# Altium integrated library Holtek Semiconductor 8-Bit OTP MCU.IntLib: 195 symbols (part 4 of 7)
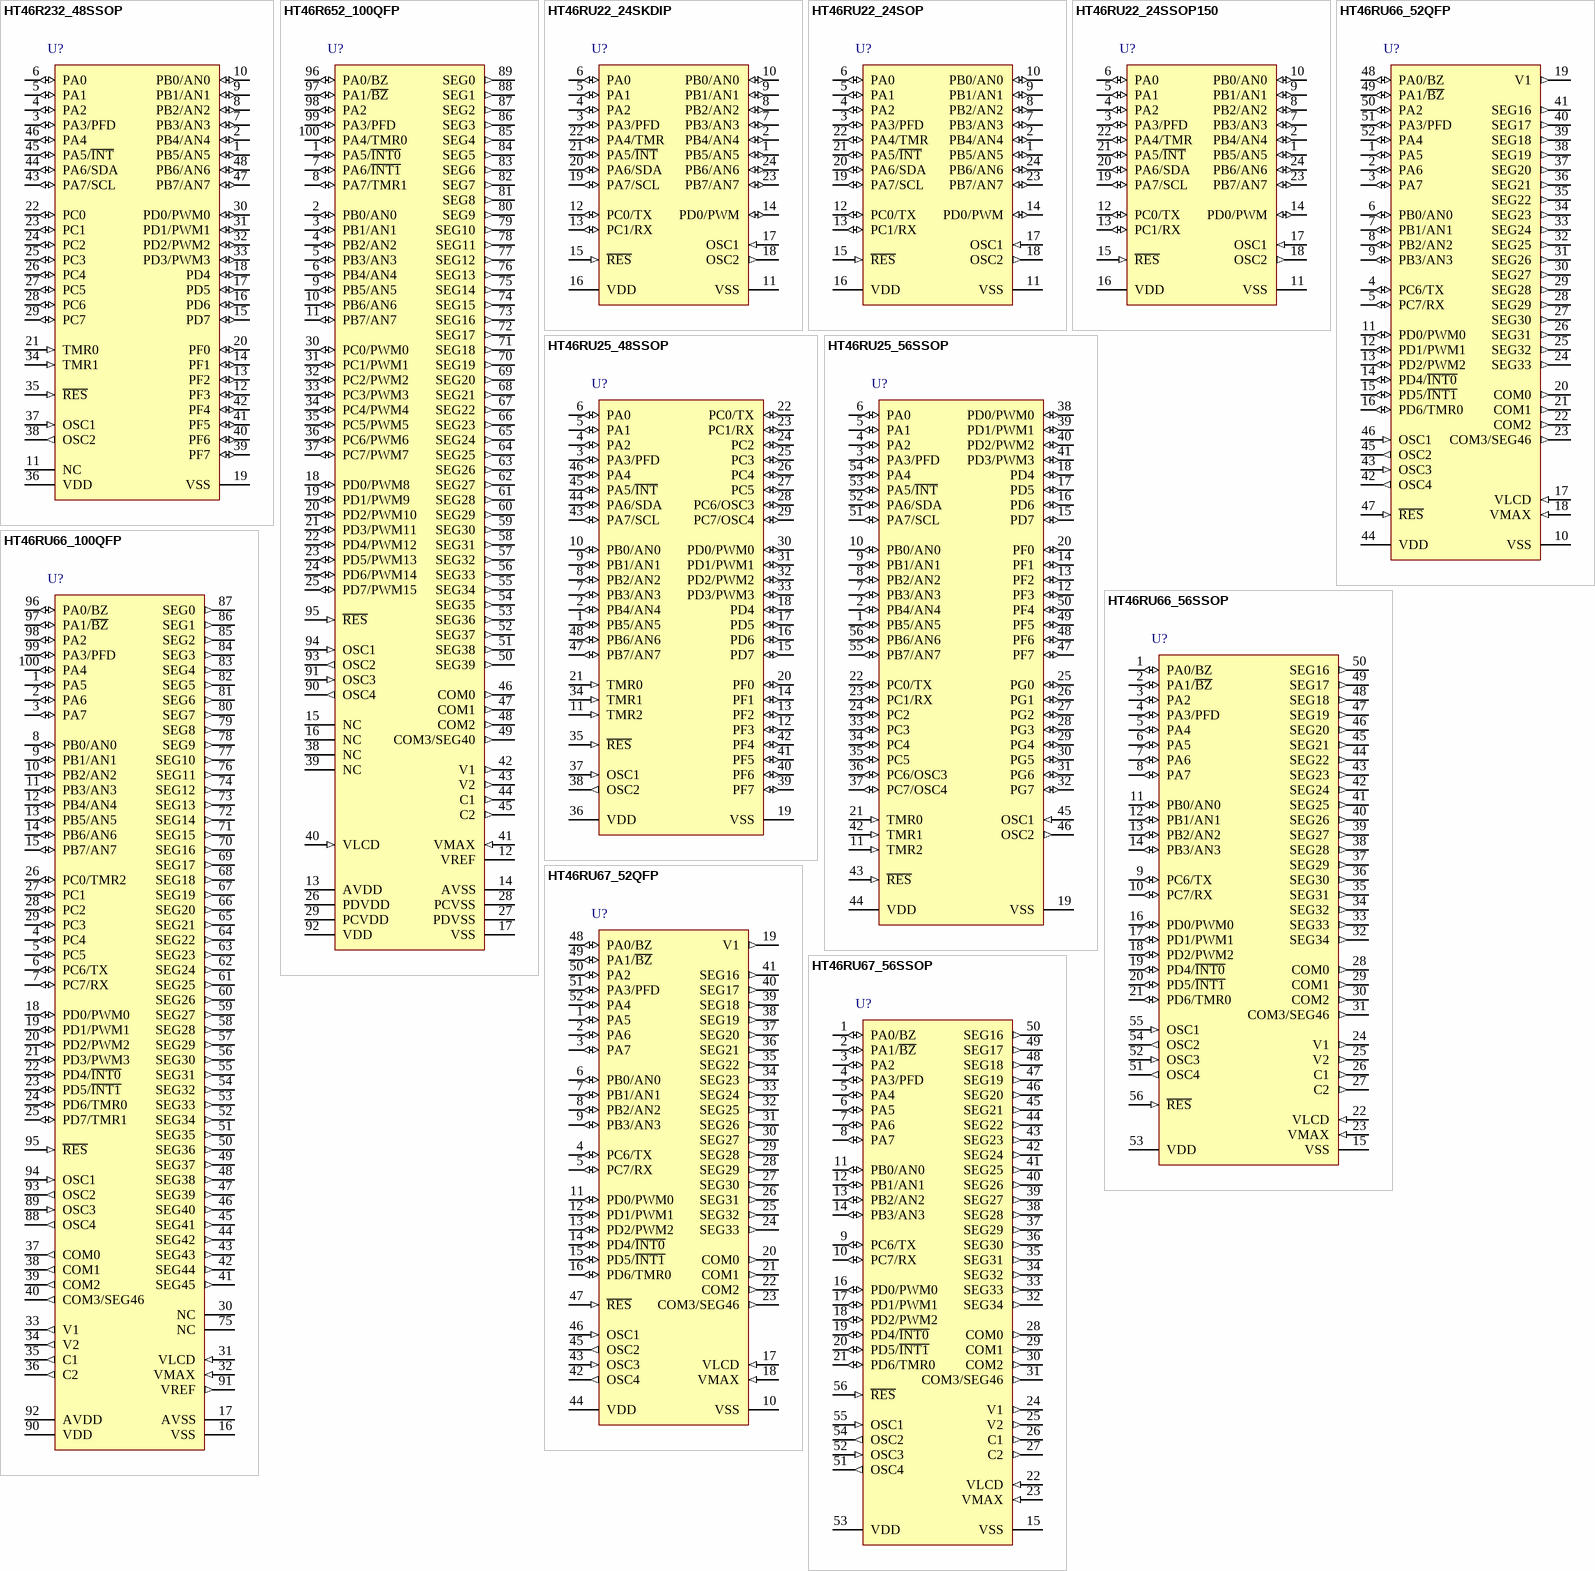
[diagram p15: symbols HT46R232_48SSOP to HT46RU67_56SSOP]

## HT46RU67_52QFP
designator U?
Display MCU, A/D Type MCU with LCD, 2.2V-5.5V, 400kHz-8MHz or 32768Hz, 32Kx16 Program Memory, 768x8 Data Memory, 32 I/O, 1 x 8-bit Timer, 2 x 16-bit Timer, 12-bitx8 A/D, 8-bitx4 PWM, 52-pin QFP; I/O: 32; DatasheetVersion: rev1.1, May-2010; PackageVersion: 25/05/2010; PackageReference: 52QFP; PackageDescription: 52-Pin Quad Flat Pack, 14 x 14 mm Body, 1 mm Pitch; Series: A/D Type MCU with LCD; Operating Voltage: 2.2V-5.5V; Program Memory: 32Kx16; Data Memory: 768x8; ComponentLink1Description: Manufacturer URL; ComponentLink1URL: http://www.holtek.com/; ComponentLink2Description: Datasheet; ComponentLink2URL: http://www.holtek.com.cn/pdf/uc/sim46xu67v110.pdf; ComponentLink3Description: Package Specification; ComponentLink3URL: http://www.holtek.com/english/literature/package.pdf
footprint 52QFP_N (QFP, 52-Leads, Body 14x14mm, Pitch 1mm, IPC Medium Density)
footprint 52QFP_L (QFP, 52-Leads, Body 14x14mm, Pitch 1mm, IPC High Density)
footprint 52QFP_M (QFP, 52-Leads, Body 14x14mm, Pitch 1mm, IPC Low Density)
pins: 1 PA5 (io), 2 PA6 (io), 3 PA7 (io), 4 PC6/TX (io), 5 PC7/RX (io), 6 PB0/AN0 (io), 7 PB1/AN1 (io), 8 PB2/AN2 (io), 9 PB3/AN3 (io), 10 VSS (power), 11 PD0/PWM0 (io), 12 PD1/PWM1 (io), 13 PD2/PWM2 (io), 14 PD4/~{INT0} (io), 15 PD5/~{INT1} (io), 16 PD6/TMR0 (io), 17 VLCD (in), 18 VMAX (in), 19 V1 (out), 20 COM0 (out), 21 COM1 (out), 22 COM2 (out), 23 COM3/SEG46 (out), 24 SEG33 (out), 25 SEG32 (out), 26 SEG31 (out), 27 SEG30 (out), 28 SEG29 (out), 29 SEG28 (out), 30 SEG27 (out), 31 SEG26 (out), 32 SEG25 (out), 33 SEG24 (out), 34 SEG23 (out), 35 SEG22 (out), 36 SEG21 (out), 37 SEG20 (out), 38 SEG19 (out), 39 SEG18 (out), 40 SEG17 (out), 41 SEG16 (out), 42 OSC4 (out), 43 OSC3 (in), 44 VDD (power), 45 OSC2 (out), 46 OSC1 (in), 47 ~{RES} (in), 48 PA0/BZ (io), 49 PA1/~{BZ} (io), 50 PA2 (io), 51 PA3/PFD (io), 52 PA4 (io)

## HT46RU67_56SSOP
designator U?
Display MCU, A/D Type MCU with LCD, 2.2V-5.5V, 400kHz-8MHz or 32768Hz, 32Kx16 Program Memory, 768x8 Data Memory, 32 I/O, 1 x 8-bit Timer, 2 x 16-bit Timer, 12-bitx8 A/D, 8-bitx4 PWM, 56-pin SSOP; I/O: 32; DatasheetVersion: rev1.1, May-2010; PackageVersion: 25/05/2010; PackageReference: 56SSOP; PackageDescription: 56-Pin Shrink Small Outline Package, 300mil Width, 0.64 mm Pitch; Series: A/D Type MCU with LCD; Operating Voltage: 2.2V-5.5V; Program Memory: 32Kx16; Data Memory: 768x8; Code_IPC: SOP635P1035-56; ComponentLink1Description: Manufacturer URL; ComponentLink1URL: http://www.holtek.com/; ComponentLink2Description: Datasheet; ComponentLink2URL: http://www.holtek.com.cn/pdf/uc/sim46xu67v110.pdf; ComponentLink3Description: Package Specification; ComponentLink3URL: http://www.holtek.com/english/literature/package.pdf
footprint 56SSOP_N (SOP, 56-Leads, Body 18.4x7.5mm, Pitch 0.635mm, IPC Medium Density)
footprint 56SSOP_L (SOP, 56-Leads, Body 18.4x7.5mm, Pitch 0.635mm, IPC High Density)
footprint 56SSOP_M (SOP, 56-Leads, Body 18.4x7.5mm, Pitch 0.635mm, IPC Low Density)
pins: 1 PA0/BZ (io), 2 PA1/~{BZ} (io), 3 PA2 (io), 4 PA3/PFD (io), 5 PA4 (io), 6 PA5 (io), 7 PA6 (io), 8 PA7 (io), 9 PC6/TX (io), 10 PC7/RX (io), 11 PB0/AN0 (io), 12 PB1/AN1 (io), 13 PB2/AN2 (io), 14 PB3/AN3 (io), 15 VSS (power), 16 PD0/PWM0 (io), 17 PD1/PWM1 (io), 18 PD2/PWM2 (io), 19 PD4/~{INT0} (io), 20 PD5/~{INT1} (io), 21 PD6/TMR0 (io), 22 VLCD (in), 23 VMAX (in), 24 V1 (out), 25 V2 (out), 26 C1 (out), 27 C2 (out), 28 COM0 (out), 29 COM1 (out), 30 COM2 (out), 31 COM3/SEG46 (out), 32 SEG34 (out), 33 SEG33 (out), 34 SEG32 (out), 35 SEG31 (out), 36 SEG30 (out), 37 SEG29 (out), 38 SEG28 (out), 39 SEG27 (out), 40 SEG26 (out), 41 SEG25 (out), 42 SEG24 (out), 43 SEG23 (out), 44 SEG22 (out), 45 SEG21 (out), 46 SEG20 (out), 47 SEG19 (out), 48 SEG18 (out), 49 SEG17 (out), 50 SEG16 (out), 51 OSC4 (out), 52 OSC3 (in), 53 VDD (power), 54 OSC2 (out), 55 OSC1 (in), 56 ~{RES} (in)

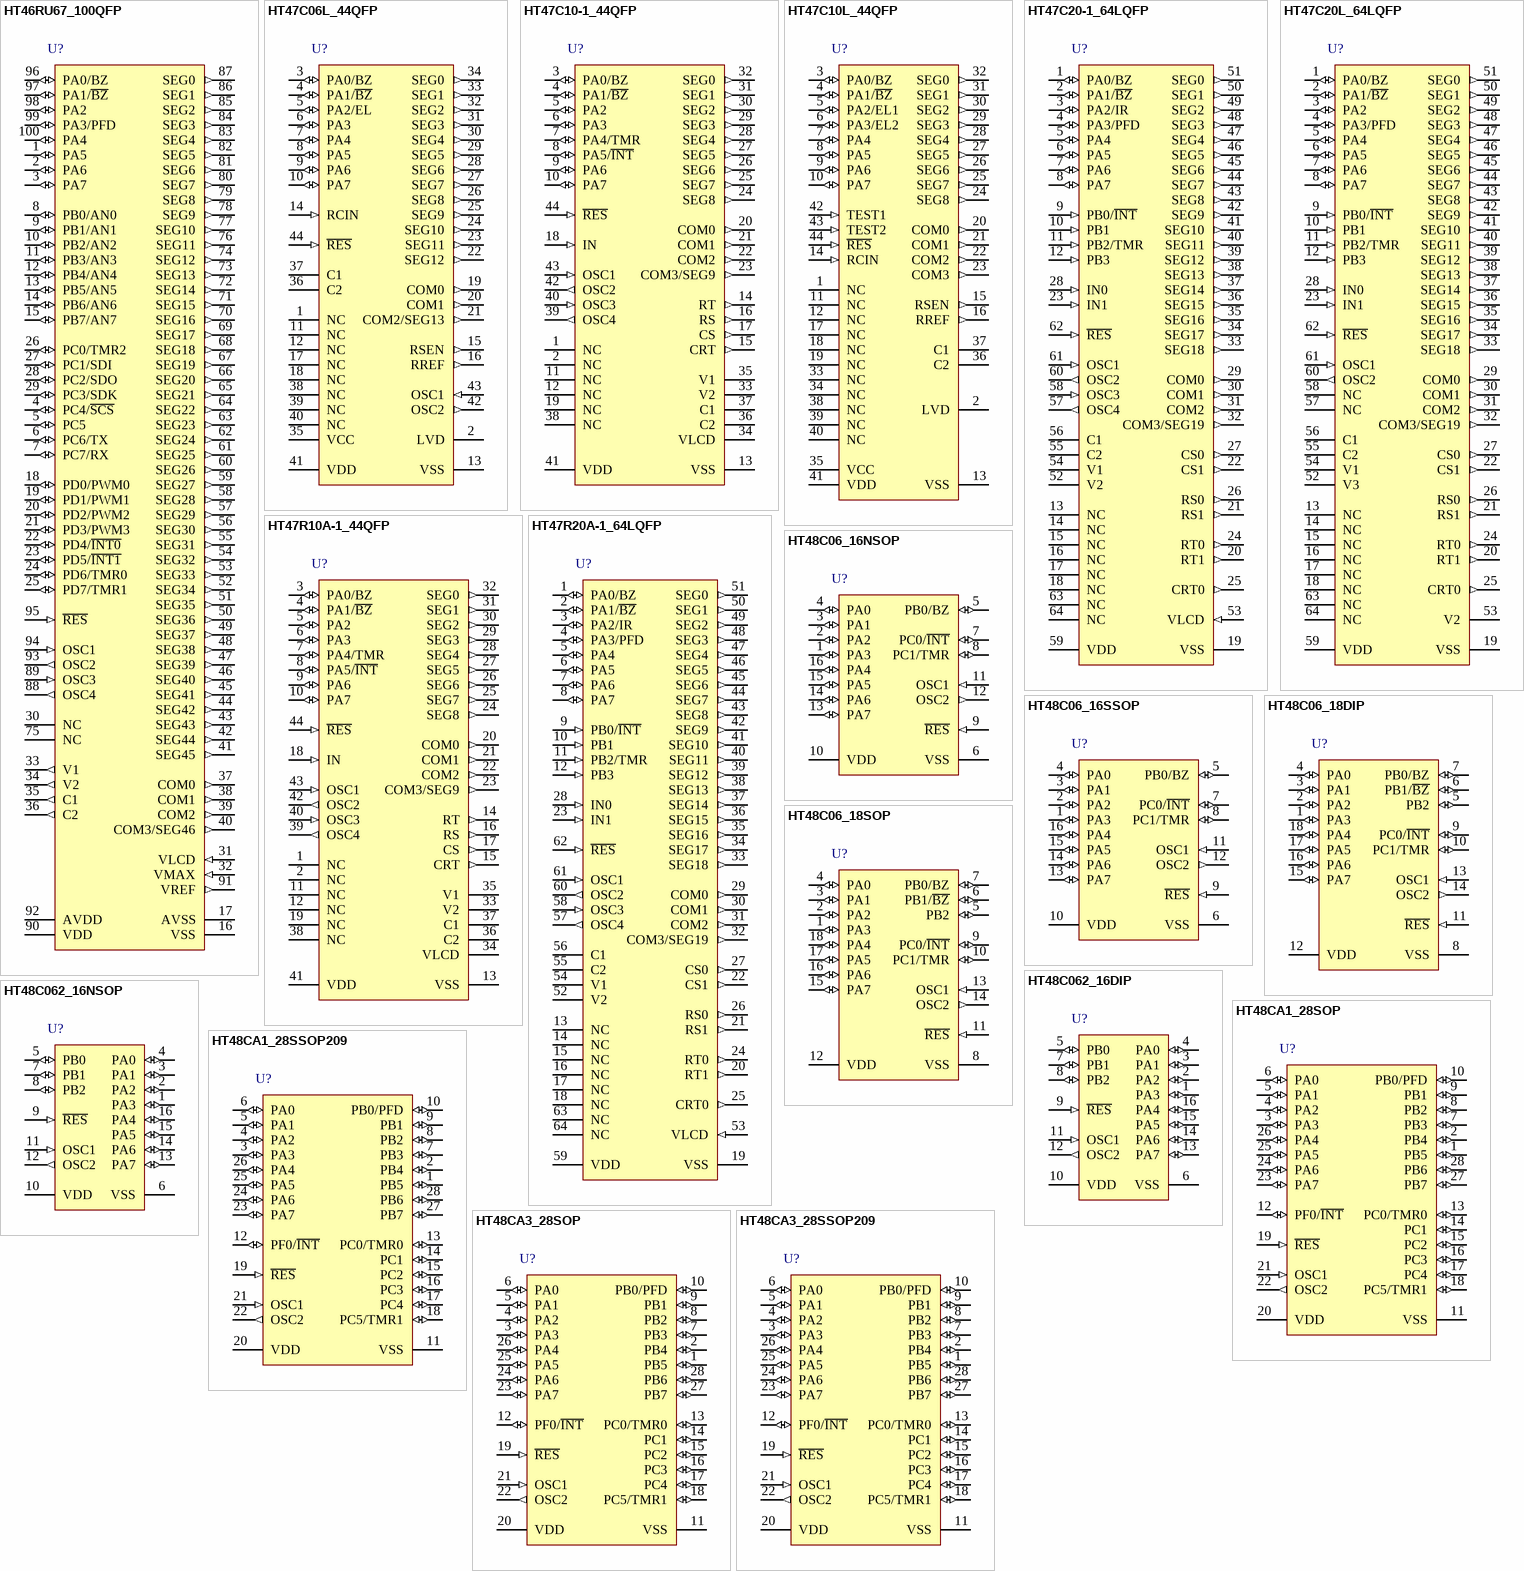
[diagram p7: symbols HT46RU67_100QFP to HT48CA3_28SSOP209]

## HT46RU67_100QFP
designator U?
Display MCU, A/D Type MCU with LCD, 2.2V-5.5V, 400kHz-8MHz or 32768Hz, 32Kx16 Program Memory, 768x8 Data Memory, 32 I/O, 1 x 8-bit Timer, 2 x 16-bit Timer, 12-bitx8 A/D, 8-bitx4 PWM, 100-pin QFP; I/O: 32; DatasheetVersion: rev1.1, May-2010; PackageVersion: 25/05/2010; PackageReference: 100QFP; PackageDescription: 100-Pin Quad Flat Pack, 14 x 20 mm Body, 0.65 mm Pitch; Series: A/D Type MCU with LCD; Operating Voltage: 2.2V-5.5V; Program Memory: 32Kx16; Data Memory: 768x8; ComponentLink1Description: Manufacturer URL; ComponentLink1URL: http://www.holtek.com/; ComponentLink2Description: Datasheet; ComponentLink2URL: http://www.holtek.com.cn/pdf/uc/sim46xu67v110.pdf; ComponentLink3Description: Package Specification; ComponentLink3URL: http://www.holtek.com/english/literature/package.pdf
footprint 100QFP_N (QFP, 100-Leads, Body 20x14mm, Pitch 0.65mm, IPC Medium Density)
footprint 100QFP_L (QFP, 100-Leads, Body 20x14mm, Pitch 0.65mm, IPC High Density)
footprint 100QFP_M (QFP, 100-Leads, Body 20x14mm, Pitch 0.65mm, IPC Low Density)
pins: 1 PA5 (io), 2 PA6 (io), 3 PA7 (io), 4 PC4/~{SCS} (io), 5 PC5 (io), 6 PC6/TX (io), 7 PC7/RX (io), 8 PB0/AN0 (io), 9 PB1/AN1 (io), 10 PB2/AN2 (io), 11 PB3/AN3 (io), 12 PB4/AN4 (io), 13 PB5/AN5 (io), 14 PB6/AN6 (io), 15 PB7/AN7 (io), 16 VSS (power), 17 AVSS (power), 18 PD0/PWM0 (io), 19 PD1/PWM1 (io), 20 PD2/PWM2 (io), 21 PD3/PWM3 (io), 22 PD4/~{INT0} (io), 23 PD5/~{INT1} (io), 24 PD6/TMR0 (io), 25 PD7/TMR1 (io), 26 PC0/TMR2 (io), 27 PC1/SDI (io), 28 PC2/SDO (io), 29 PC3/SDK (io), 30 NC, 31 VLCD (in), 32 VMAX (in), 33 V1 (out), 34 V2 (out), 35 C1 (out), 36 C2 (out), 37 COM0 (out), 38 COM1 (out), 39 COM2 (out), 40 COM3/SEG46 (out), 41 SEG45 (out), 42 SEG44 (out), 43 SEG43 (out), 44 SEG42 (out), 45 SEG41 (out), 46 SEG40 (out), 47 SEG39 (out), 48 SEG38 (out), 49 SEG37 (out), 50 SEG36 (out), 51 SEG35 (out), 52 SEG34 (out), 53 SEG33 (out), 54 SEG32 (out), 55 SEG31 (out), 56 SEG30 (out), 57 SEG29 (out), 58 SEG28 (out), 59 SEG27 (out), 60 SEG26 (out), 61 SEG25 (out), 62 SEG24 (out), 63 SEG23 (out), 64 SEG22 (out), 65 SEG21 (out), 66 SEG20 (out), 67 SEG19 (out), 68 SEG18 (out), 69 SEG17 (out), 70 SEG16 (out), 71 SEG15 (out), 72 SEG14 (out), 73 SEG13 (out), 74 SEG12 (out), 75 NC, 76 SEG11 (out), 77 SEG10 (out), 78 SEG9 (out), 79 SEG8 (out), 80 SEG7 (out), 81 SEG6 (out), 82 SEG5 (out), 83 SEG4 (out), 84 SEG3 (out), 85 SEG2 (out), 86 SEG1 (out), 87 SEG0 (out), 88 OSC4 (out), 89 OSC3 (in), 90 VDD (power), 91 VREF (out), 92 AVDD (power), 93 OSC2 (out), 94 OSC1 (in), 95 ~{RES} (in), 96 PA0/BZ (io), 97 PA1/~{BZ} (io), 98 PA2 (io), 99 PA3/PFD (io), 100 PA4 (io)

## HT47C06L_44QFP
designator U?
R to F Type MCU, R to F Type MCU, 1.2V-2.2V, 32768Hz-128kHz, 1Kx16 Program Memory, 32x8 Data Memory, 8 I/O, 1 x 16-bit Timer, 44-pin QFP; I/O: 8; DatasheetVersion: rev1.0, Jun-2007; PackageVersion: 25/05/2010; PackageReference: 44QFP; PackageDescription: 44-Pin Quad Flat Pack, 10 x 10 mm Body, 0.8 mm Pitch; Series: R to F Type MCU; Operating Voltage: 1.2V-2.2V; Program Memory: 1Kx16; Data Memory: 32x8; Code_IPC: QFP80P1320X1320-44; ComponentLink1Description: Manufacturer URL; ComponentLink1URL: http://www.holtek.com/; ComponentLink2Description: Datasheet; ComponentLink2URL: http://www.holtek.com.cn/pdf/uc/sim47c06lv100.pdf; ComponentLink3Description: Package Specification; ComponentLink3URL: http://www.holtek.com/english/literature/package.pdf
footprint 44QFP_N (QFP, 44-Leads, Body 10x10mm, Pitch 0.8mm, IPC Medium Density)
footprint 44QFP_L (QFP, 44-Leads, Body 10x10mm, Pitch 0.8mm, IPC High Density)
footprint 44QFP_M (QFP, 44-Leads, Body 10x10mm, Pitch 0.8mm, IPC Low Density)
pins: 1 NC, 2 LVD, 3 PA0/BZ (io), 4 PA1/~{BZ} (io), 5 PA2/EL (io), 6 PA3 (io), 7 PA4 (io), 8 PA5 (io), 9 PA6 (io), 10 PA7 (io), 11 NC, 12 NC, 13 VSS (power), 14 RCIN (in), 15 RSEN (out), 16 RREF (out), 17 NC, 18 NC, 19 COM0 (out), 20 COM1 (out), 21 COM2/SEG13 (out), 22 SEG12 (out), 23 SEG11 (out), 24 SEG10 (out), 25 SEG9 (out), 26 SEG8 (out), 27 SEG7 (out), 28 SEG6 (out), 29 SEG5 (out), 30 SEG4 (out), 31 SEG3 (out), 32 SEG2 (out), 33 SEG1 (out), 34 SEG0 (out), 35 VCC (power), 36 C2, 37 C1, 38 NC, 39 NC, 40 NC, 41 VDD (power), 42 OSC2 (out), 43 OSC1 (in), 44 ~{RES} (in)

## HT47C10-1_44QFP
designator U?
R to F Type MCU, R to F Type MCU, 2.2V-5.5V, 400kHz-8MHz, 1Kx16 Program Memory, 32x8 Data Memory, 8 I/O, 1 x 16-bit Timer, 44-pin QFP; I/O: 8; DatasheetVersion: rev1.1, Sep-2007; PackageVersion: 25/05/2010; PackageReference: 44QFP; PackageDescription: 44-Pin Quad Flat Pack, 10 x 10 mm Body, 0.8 mm Pitch; Series: R to F Type MCU; Operating Voltage: 2.2V-5.5V; Program Memory: 1Kx16; Data Memory: 32x8; Code_IPC: QFP80P1320X1320-44; ComponentLink1Description: Manufacturer URL; ComponentLink1URL: http://www.holtek.com/; ComponentLink2Description: Datasheet; ComponentLink2URL: http://www.holtek.com.cn/pdf/uc/sim47x10v110.pdf; ComponentLink3Description: Package Specification; ComponentLink3URL: http://www.holtek.com/english/literature/package.pdf
footprint 44QFP_N (QFP, 44-Leads, Body 10x10mm, Pitch 0.8mm, IPC Medium Density)
footprint 44QFP_L (QFP, 44-Leads, Body 10x10mm, Pitch 0.8mm, IPC High Density)
footprint 44QFP_M (QFP, 44-Leads, Body 10x10mm, Pitch 0.8mm, IPC Low Density)
pins: 1 NC, 2 NC, 3 PA0/BZ (io), 4 PA1/~{BZ} (io), 5 PA2 (io), 6 PA3 (io), 7 PA4/TMR (io), 8 PA5/~{INT} (io), 9 PA6 (io), 10 PA7 (io), 11 NC, 12 NC, 13 VSS (power), 14 RT (out), 15 CRT (out), 16 RS (out), 17 CS (out), 18 IN (in), 19 NC, 20 COM0 (out), 21 COM1 (out), 22 COM2 (out), 23 COM3/SEG9 (out), 24 SEG8 (out), 25 SEG7 (out), 26 SEG6 (out), 27 SEG5 (out), 28 SEG4 (out), 29 SEG3 (out), 30 SEG2 (out), 31 SEG1 (out), 32 SEG0 (out), 33 V2, 34 VLCD, 35 V1, 36 C2, 37 C1, 38 NC, 39 OSC4 (out), 40 OSC3 (in), 41 VDD (power), 42 OSC2 (out), 43 OSC1 (in), 44 ~{RES} (in)

## HT47C10L_44QFP
designator U?
R to F Type MCU, R to F Type MCU, 1.2V-2.2V, 32768Hz, 1Kx16 Program Memory, 32x8 Data Memory, 8 I/O, 1 x 16-bit Timer, 44-pin QFP; I/O: 8; DatasheetVersion: rev1.9, Nov-2005; PackageVersion: 25/05/2010; PackageReference: 44QFP; PackageDescription: 44-Pin Quad Flat Pack, 10 x 10 mm Body, 0.8 mm Pitch; Series: R to F Type MCU; Operating Voltage: 1.2V-2.2V; Program Memory: 1Kx16; Data Memory: 32x8; Code_IPC: QFP80P1320X1320-44; ComponentLink1Description: Manufacturer URL; ComponentLink1URL: http://www.holtek.com/; ComponentLink2Description: Datasheet; ComponentLink2URL: http://www.holtek.com.cn/pdf/uc/sim47c10lv190.pdf; ComponentLink3Description: Package Specification; ComponentLink3URL: http://www.holtek.com/english/literature/package.pdf
footprint 44QFP_N (QFP, 44-Leads, Body 10x10mm, Pitch 0.8mm, IPC Medium Density)
footprint 44QFP_L (QFP, 44-Leads, Body 10x10mm, Pitch 0.8mm, IPC High Density)
footprint 44QFP_M (QFP, 44-Leads, Body 10x10mm, Pitch 0.8mm, IPC Low Density)
pins: 1 NC, 2 LVD, 3 PA0/BZ (io), 4 PA1/~{BZ} (io), 5 PA2/EL1 (io), 6 PA3/EL2 (io), 7 PA4 (io), 8 PA5 (io), 9 PA6 (io), 10 PA7 (io), 11 NC, 12 NC, 13 VSS (power), 14 RCIN (in), 15 RSEN (out), 16 RREF (out), 17 NC, 18 NC, 19 NC, 20 COM0 (out), 21 COM1 (out), 22 COM2 (out), 23 COM3 (out), 24 SEG8 (out), 25 SEG7 (out), 26 SEG6 (out), 27 SEG5 (out), 28 SEG4 (out), 29 SEG3 (out), 30 SEG2 (out), 31 SEG1 (out), 32 SEG0 (out), 33 NC, 34 NC, 35 VCC (power), 36 C2, 37 C1, 38 NC, 39 NC, 40 NC, 41 VDD (power), 42 TEST1 (in), 43 TEST2 (in), 44 ~{RES} (in)

## HT47C20-1_64LQFP
designator U?
R to F Type MCU, R to F Type MCU, 2.2V-5.5V, 400kHz-8MHz, 2Kx16 Program Memory, 64x8 Data Memory, 12 I/O, 1 x 16-bit Timer, 64-pin LQFP; I/O: 12; DatasheetVersion: rev1.8, Jun-2008; PackageVersion: 25/05/2010; PackageReference: 64LQFP; PackageDescription: 64-Pin Low Profile Quad Flat Pack, 7 x 7 mm Body, 0.4 mm Pitch; Series: R to F Type MCU; Operating Voltage: 2.2V-5.5V; Program Memory: 2Kx16; Data Memory: 64x8; ComponentLink1Description: Manufacturer URL; ComponentLink1URL: http://www.holtek.com/; ComponentLink2Description: Datasheet; ComponentLink2URL: http://www.holtek.com.cn/pdf/uc/sim47x20v180.pdf; ComponentLink3Description: Package Specification; ComponentLink3URL: http://www.holtek.com/english/literature/package.pdf
footprint 64LQFP_N (Thin QFP, 64-Leads, Body 7x7mm, Pitch 0.4mm, IPC Medium Density)
footprint 64LQFP_L (Thin QFP, 64-Leads, Body 7x7mm, Pitch 0.4mm, IPC High Density)
footprint 64LQFP_M (Thin QFP, 64-Leads, Body 7x7mm, Pitch 0.4mm, IPC Low Density)
pins: 1 PA0/BZ (io), 2 PA1/~{BZ} (io), 3 PA2/IR (io), 4 PA3/PFD (io), 5 PA4 (io), 6 PA5 (io), 7 PA6 (io), 8 PA7 (io), 9 PB0/~{INT} (in), 10 PB1 (in), 11 PB2/TMR (in), 12 PB3 (in), 13 NC, 14 NC, 15 NC, 16 NC, 17 NC, 18 NC, 19 VSS (power), 20 RT1 (out), 21 RS1 (out), 22 CS1 (out), 23 IN1 (in), 24 RT0 (out), 25 CRT0 (out), 26 RS0 (out), 27 CS0 (out), 28 IN0 (in), 29 COM0 (out), 30 COM1 (out), 31 COM2 (out), 32 COM3/SEG19 (out), 33 SEG18 (out), 34 SEG17 (out), 35 SEG16 (out), 36 SEG15 (out), 37 SEG14 (out), 38 SEG13 (out), 39 SEG12 (out), 40 SEG11 (out), 41 SEG10 (out), 42 SEG9 (out), 43 SEG8 (out), 44 SEG7 (out), 45 SEG6 (out), 46 SEG5 (out), 47 SEG4 (out), 48 SEG3 (out), 49 SEG2 (out), 50 SEG1 (out), 51 SEG0 (out), 52 V2, 53 VLCD (in), 54 V1, 55 C2, 56 C1, 57 OSC4 (out), 58 OSC3 (in), 59 VDD (power), 60 OSC2 (out), 61 OSC1 (in), 62 ~{RES} (in), 63 NC, 64 NC

## HT47C20L_64LQFP
designator U?
R to F Type MCU, R to F Type MCU, 1.2V-2.2V, 32768Hz, 2Kx16 Program Memory, 64x8 Data Memory, 12 I/O, 1 x 16-bit Timer, 64-pin LQFP; I/O: 12; DatasheetVersion: rev2.5, Jun-2008; PackageVersion: 25/05/2010; PackageReference: 64LQFP; PackageDescription: 64-Pin Low Profile Quad Flat Pack, 7 x 7 mm Body, 0.4 mm Pitch; Series: R to F Type MCU; Operating Voltage: 1.2V-2.2V; Program Memory: 2Kx16; Data Memory: 64x8; ComponentLink1Description: Manufacturer URL; ComponentLink1URL: http://www.holtek.com/; ComponentLink2Description: Datasheet; ComponentLink2URL: http://www.holtek.com.cn/pdf/uc/sim47c20lv250.pdf; ComponentLink3Description: Package Specification; ComponentLink3URL: http://www.holtek.com/english/literature/package.pdf
footprint 64LQFP_N (Thin QFP, 64-Leads, Body 7x7mm, Pitch 0.4mm, IPC Medium Density)
footprint 64LQFP_L (Thin QFP, 64-Leads, Body 7x7mm, Pitch 0.4mm, IPC High Density)
footprint 64LQFP_M (Thin QFP, 64-Leads, Body 7x7mm, Pitch 0.4mm, IPC Low Density)
pins: 1 PA0/BZ (io), 2 PA1/~{BZ} (io), 3 PA2 (io), 4 PA3/PFD (io), 5 PA4 (io), 6 PA5 (io), 7 PA6 (io), 8 PA7 (io), 9 PB0/~{INT} (in), 10 PB1 (in), 11 PB2/TMR (in), 12 PB3 (in), 13 NC, 14 NC, 15 NC, 16 NC, 17 NC, 18 NC, 19 VSS (power), 20 RT1 (out), 21 RS1 (out), 22 CS1 (out), 23 IN1 (in), 24 RT0 (out), 25 CRT0 (out), 26 RS0 (out), 27 CS0 (out), 28 IN0 (in), 29 COM0 (out), 30 COM1 (out), 31 COM2 (out), 32 COM3/SEG19 (out), 33 SEG18 (out), 34 SEG17 (out), 35 SEG16 (out), 36 SEG15 (out), 37 SEG14 (out), 38 SEG13 (out), 39 SEG12 (out), 40 SEG11 (out), 41 SEG10 (out), 42 SEG9 (out), 43 SEG8 (out), 44 SEG7 (out), 45 SEG6 (out), 46 SEG5 (out), 47 SEG4 (out), 48 SEG3 (out), 49 SEG2 (out), 50 SEG1 (out), 51 SEG0 (out), 52 V3, 53 V2, 54 V1, 55 C2, 56 C1, 57 NC, 58 NC, 59 VDD (power), 60 OSC2 (out), 61 OSC1 (in), 62 ~{RES} (in), 63 NC, 64 NC

## HT47R10A-1_44QFP
designator U?
R to F Type MCU, R to F Type MCU, 2.2V-5.5V, 400kHz-8MHz, 1Kx16 Program Memory, 32x8 Data Memory, 8 I/O, 1 x 16-bit Timer, 44-pin QFP; I/O: 8; DatasheetVersion: rev1.1, Sep-2007; PackageVersion: 25/05/2010; PackageReference: 44QFP; PackageDescription: 44-Pin Quad Flat Pack, 10 x 10 mm Body, 0.8 mm Pitch; Series: R to F Type MCU; Operating Voltage: 2.2V-5.5V; Program Memory: 1Kx16; Data Memory: 32x8; Code_IPC: QFP80P1320X1320-44; ComponentLink1Description: Manufacturer URL; ComponentLink1URL: http://www.holtek.com/; ComponentLink2Description: Datasheet; ComponentLink2URL: http://www.holtek.com.cn/pdf/uc/sim47x10v110.pdf; ComponentLink3Description: Package Specification; ComponentLink3URL: http://www.holtek.com/english/literature/package.pdf
footprint 44QFP_N (QFP, 44-Leads, Body 10x10mm, Pitch 0.8mm, IPC Medium Density)
footprint 44QFP_L (QFP, 44-Leads, Body 10x10mm, Pitch 0.8mm, IPC High Density)
footprint 44QFP_M (QFP, 44-Leads, Body 10x10mm, Pitch 0.8mm, IPC Low Density)
pins: 1 NC, 2 NC, 3 PA0/BZ (io), 4 PA1/~{BZ} (io), 5 PA2 (io), 6 PA3 (io), 7 PA4/TMR (io), 8 PA5/~{INT} (io), 9 PA6 (io), 10 PA7 (io), 11 NC, 12 NC, 13 VSS (power), 14 RT (out), 15 CRT (out), 16 RS (out), 17 CS (out), 18 IN (in), 19 NC, 20 COM0 (out), 21 COM1 (out), 22 COM2 (out), 23 COM3/SEG9 (out), 24 SEG8 (out), 25 SEG7 (out), 26 SEG6 (out), 27 SEG5 (out), 28 SEG4 (out), 29 SEG3 (out), 30 SEG2 (out), 31 SEG1 (out), 32 SEG0 (out), 33 V2, 34 VLCD, 35 V1, 36 C2, 37 C1, 38 NC, 39 OSC4 (out), 40 OSC3 (in), 41 VDD (power), 42 OSC2 (out), 43 OSC1 (in), 44 ~{RES} (in)

## HT47R20A-1_64LQFP
designator U?
R to F Type MCU, R to F Type MCU, 2.2V-5.5V, 400kHz-8MHz, 2Kx16 Program Memory, 64x8 Data Memory, 12 I/O, 1 x 16-bit Timer, 64-pin LQFP; I/O: 12; DatasheetVersion: rev1.8, Jun-2008; PackageVersion: 25/05/2010; PackageReference: 64LQFP; PackageDescription: 64-Pin Low Profile Quad Flat Pack, 7 x 7 mm Body, 0.4 mm Pitch; Series: R to F Type MCU; Operating Voltage: 2.2V-5.5V; Program Memory: 2Kx16; Data Memory: 64x8; ComponentLink1Description: Manufacturer URL; ComponentLink1URL: http://www.holtek.com/; ComponentLink2Description: Datasheet; ComponentLink2URL: http://www.holtek.com.cn/pdf/uc/sim47x20v180.pdf; ComponentLink3Description: Package Specification; ComponentLink3URL: http://www.holtek.com/english/literature/package.pdf
footprint 64LQFP_N (Thin QFP, 64-Leads, Body 7x7mm, Pitch 0.4mm, IPC Medium Density)
footprint 64LQFP_L (Thin QFP, 64-Leads, Body 7x7mm, Pitch 0.4mm, IPC High Density)
footprint 64LQFP_M (Thin QFP, 64-Leads, Body 7x7mm, Pitch 0.4mm, IPC Low Density)
pins: 1 PA0/BZ (io), 2 PA1/~{BZ} (io), 3 PA2/IR (io), 4 PA3/PFD (io), 5 PA4 (io), 6 PA5 (io), 7 PA6 (io), 8 PA7 (io), 9 PB0/~{INT} (in), 10 PB1 (in), 11 PB2/TMR (in), 12 PB3 (in), 13 NC, 14 NC, 15 NC, 16 NC, 17 NC, 18 NC, 19 VSS (power), 20 RT1 (out), 21 RS1 (out), 22 CS1 (out), 23 IN1 (in), 24 RT0 (out), 25 CRT0 (out), 26 RS0 (out), 27 CS0 (out), 28 IN0 (in), 29 COM0 (out), 30 COM1 (out), 31 COM2 (out), 32 COM3/SEG19 (out), 33 SEG18 (out), 34 SEG17 (out), 35 SEG16 (out), 36 SEG15 (out), 37 SEG14 (out), 38 SEG13 (out), 39 SEG12 (out), 40 SEG11 (out), 41 SEG10 (out), 42 SEG9 (out), 43 SEG8 (out), 44 SEG7 (out), 45 SEG6 (out), 46 SEG5 (out), 47 SEG4 (out), 48 SEG3 (out), 49 SEG2 (out), 50 SEG1 (out), 51 SEG0 (out), 52 V2, 53 VLCD (in), 54 V1, 55 C2, 56 C1, 57 OSC4 (out), 58 OSC3 (in), 59 VDD (power), 60 OSC2 (out), 61 OSC1 (in), 62 ~{RES} (in), 63 NC, 64 NC

## HT48C06_16NSOP
designator U?
General Purpose MCU, Cost-Effective I/O Type MCU, 2.2V-5.5V, 400kHz-8MHz, 1Kx14 Program Memory, 64x8 Data Memory, 13 I/O, 1 x 8-bit Timer, 16-pin NSOP; I/O: 13; DatasheetVersion: rev1.51, Dec-2008; PackageVersion: 25/05/2010; PackageReference: 16NSOP; PackageDescription: 16-Pin Narrow Small Outline Package, 150mil Wide, 1.27 mm Pitch; Series: Cost-Effective I/O Type MCU; Operating Voltage: 2.2V-5.5V; Program Memory: 1Kx14; Data Memory: 64x8; ComponentLink1Description: Manufacturer URL; ComponentLink1URL: http://www.holtek.com/; ComponentLink2Description: Datasheet; ComponentLink2URL: http://www.holtek.com.cn/pdf/uc/sim48x050608_1v151.pdf; ComponentLink3Description: Package Specification; ComponentLink3URL: http://www.holtek.com/english/literature/package.pdf
footprint 16NSOP_N (SOIC, 16-Leads, Body 10.01x3.9mm, Pitch 1.27mm, IPC Medium Density)
footprint 16NSOP_L (SOIC, 16-Leads, Body 10.01x3.9mm, Pitch 1.27mm, IPC High Density)
footprint 16NSOP_M (SOIC, 16-Leads, Body 10.01x3.9mm, Pitch 1.27mm, IPC Low Density)
pins: 1 PA3 (io), 2 PA2 (io), 3 PA1 (io), 4 PA0 (io), 5 PB0/BZ (io), 6 VSS (power), 7 PC0/~{INT} (io), 8 PC1/TMR (io), 9 ~{RES} (in), 10 VDD (power), 11 OSC1 (in), 12 OSC2 (out), 13 PA7 (io), 14 PA6 (io), 15 PA5 (io), 16 PA4 (io)

## HT48C06_16SSOP
designator U?
General Purpose MCU, Cost-Effective I/O Type MCU, 2.2V-5.5V, 400kHz-8MHz, 1Kx14 Program Memory, 64x8 Data Memory, 13 I/O, 1 x 8-bit Timer, 16-pin SSOP; I/O: 13; DatasheetVersion: rev1.51, Dec-2008; PackageVersion: 25/05/2010; PackageReference: 16SSOP; PackageDescription: 16-Pin Shrink Small Outline Package, 150mil Width, 0.64 mm Pitch; Series: Cost-Effective I/O Type MCU; Operating Voltage: 2.2V-5.5V; Program Memory: 1Kx14; Data Memory: 64x8; ComponentLink1Description: Manufacturer URL; ComponentLink1URL: http://www.holtek.com/; ComponentLink2Description: Datasheet; ComponentLink2URL: http://www.holtek.com.cn/pdf/uc/sim48x050608_1v151.pdf; ComponentLink3Description: Package Specification; ComponentLink3URL: http://www.holtek.com/english/literature/package.pdf
footprint 16SSOP_N (SOP, 16-Leads, Body 4.9x3.9mm, Pitch 0.635mm, IPC Medium Density)
footprint 16SSOP_L (SOP, 16-Leads, Body 4.9x3.9mm, Pitch 0.635mm, IPC High Density)
footprint 16SSOP_M (SOP, 16-Leads, Body 4.9x3.9mm, Pitch 0.635mm, IPC Low Density)
pins: 1 PA3 (io), 2 PA2 (io), 3 PA1 (io), 4 PA0 (io), 5 PB0/BZ (io), 6 VSS (power), 7 PC0/~{INT} (io), 8 PC1/TMR (io), 9 ~{RES} (in), 10 VDD (power), 11 OSC1 (in), 12 OSC2 (out), 13 PA7 (io), 14 PA6 (io), 15 PA5 (io), 16 PA4 (io)

## HT48C06_18DIP
designator U?
General Purpose MCU, Cost-Effective I/O Type MCU, 2.2V-5.5V, 400kHz-8MHz, 1Kx14 Program Memory, 64x8 Data Memory, 13 I/O, 1 x 8-bit Timer, 18-pin DIP; I/O: 13; DatasheetVersion: rev1.51, Dec-2008; PackageVersion: 25/05/2010; PackageReference: 18DIP; PackageDescription: 18-Pin, Dual In-line Package, 300mil Width, Pitch 2.54 mm, Full Lead; Series: Cost-Effective I/O Type MCU; Operating Voltage: 2.2V-5.5V; Program Memory: 1Kx14; Data Memory: 64x8; Code_JEDEC: MS-001D; ComponentLink1Description: Manufacturer URL; ComponentLink1URL: http://www.holtek.com/; ComponentLink2Description: Datasheet; ComponentLink2URL: http://www.holtek.com.cn/pdf/uc/sim48x050608_1v151.pdf; ComponentLink3Description: Package Specification; ComponentLink3URL: http://www.holtek.com/english/literature/package.pdf
footprint 18DIP (DIP, 18-Leads, Row Spacing 7.62mm, Pitch 2.54mm, Body 22.9x6.6mm)
pins: 1 PA3 (io), 2 PA2 (io), 3 PA1 (io), 4 PA0 (io), 5 PB2 (io), 6 PB1/~{BZ} (io), 7 PB0/BZ (io), 8 VSS (power), 9 PC0/~{INT} (io), 10 PC1/TMR (io), 11 ~{RES} (in), 12 VDD (power), 13 OSC1 (in), 14 OSC2 (out), 15 PA7 (io), 16 PA6 (io), 17 PA5 (io), 18 PA4 (io)

## HT48C06_18SOP
designator U?
General Purpose MCU, Cost-Effective I/O Type MCU, 2.2V-5.5V, 400kHz-8MHz, 1Kx14 Program Memory, 64x8 Data Memory, 13 I/O, 1 x 8-bit Timer, 18-pin SOP; I/O: 13; DatasheetVersion: rev1.51, Dec-2008; PackageVersion: 25/05/2010; PackageReference: 18SOP; PackageDescription: 18-Pin Small Outline Package, 300mil Wide, 1.27 mm Pitch; Series: Cost-Effective I/O Type MCU; Operating Voltage: 2.2V-5.5V; Program Memory: 1Kx14; Data Memory: 64x8; Code_JEDEC: MS-013; ComponentLink1Description: Manufacturer URL; ComponentLink1URL: http://www.holtek.com/; ComponentLink2Description: Datasheet; ComponentLink2URL: http://www.holtek.com.cn/pdf/uc/sim48x050608_1v151.pdf; ComponentLink3Description: Package Specification; ComponentLink3URL: http://www.holtek.com/english/literature/package.pdf
footprint 18SOP_N (SOIC, 18-Leads, Body 11.6x7.1mm, Pitch 1.27mm, IPC Medium Density)
footprint 18SOP_L (SOIC, 18-Leads, Body 11.6x7.1mm, Pitch 1.27mm, IPC High Density)
footprint 18SOP_M (SOIC, 18-Leads, Body 11.6x7.1mm, Pitch 1.27mm, IPC Low Density)
pins: 1 PA3 (io), 2 PA2 (io), 3 PA1 (io), 4 PA0 (io), 5 PB2 (io), 6 PB1/~{BZ} (io), 7 PB0/BZ (io), 8 VSS (power), 9 PC0/~{INT} (io), 10 PC1/TMR (io), 11 ~{RES} (in), 12 VDD (power), 13 OSC1 (in), 14 OSC2 (out), 15 PA7 (io), 16 PA6 (io), 17 PA5 (io), 18 PA4 (io)

## HT48C062_16DIP
designator U?
General Purpose MCU, Cost-Effective I/O Type MCU, 2.2V-5.5V, 400kHz-8MHz, 1Kx14 Program Memory, 32x8 Data Memory, 11 I/O, 16-pin DIP; I/O: 11; DatasheetVersion: rev1.21, Dec-2008; PackageVersion: 25/05/2010; PackageReference: 16DIP; PackageDescription: 16-Pin, Dual In-line Package, 300mil Width, Pitch 2.54 mm, Full Lead; Series: Cost-Effective I/O Type MCU; Operating Voltage: 2.2V-5.5V; Program Memory: 1Kx14; Data Memory: 32x8; Code_JEDEC: MS-001D; ComponentLink1Description: Manufacturer URL; ComponentLink1URL: http://www.holtek.com/; ComponentLink2Description: Datasheet; ComponentLink2URL: http://www.holtek.com.cn/pdf/uc/sim48x062_v121.pdf; ComponentLink3Description: Package Specification; ComponentLink3URL: http://www.holtek.com/english/literature/package.pdf
footprint 16DIP (DIP, 16-Leads, Row Spacing 7.62mm, Pitch 2.54mm, Body 21.1x6.6mm)
pins: 1 PA3 (io), 2 PA2 (io), 3 PA1 (io), 4 PA0 (io), 5 PB0 (io), 6 VSS (power), 7 PB1 (io), 8 PB2 (io), 9 ~{RES} (in), 10 VDD (power), 11 OSC1 (in), 12 OSC2 (out), 13 PA7 (io), 14 PA6 (io), 15 PA5 (io), 16 PA4 (io)

## HT48C062_16NSOP
designator U?
General Purpose MCU, Cost-Effective I/O Type MCU, 2.2V-5.5V, 400kHz-8MHz, 1Kx14 Program Memory, 32x8 Data Memory, 11 I/O, 16-pin NSOP; I/O: 11; DatasheetVersion: rev1.21, Dec-2008; PackageVersion: 25/05/2010; PackageReference: 16NSOP; PackageDescription: 16-Pin Narrow Small Outline Package, 150mil Wide, 1.27 mm Pitch; Series: Cost-Effective I/O Type MCU; Operating Voltage: 2.2V-5.5V; Program Memory: 1Kx14; Data Memory: 32x8; ComponentLink1Description: Manufacturer URL; ComponentLink1URL: http://www.holtek.com/; ComponentLink2Description: Datasheet; ComponentLink2URL: http://www.holtek.com.cn/pdf/uc/sim48x062_v121.pdf; ComponentLink3Description: Package Specification; ComponentLink3URL: http://www.holtek.com/english/literature/package.pdf
footprint 16NSOP_N (SOIC, 16-Leads, Body 10.01x3.9mm, Pitch 1.27mm, IPC Medium Density)
footprint 16NSOP_L (SOIC, 16-Leads, Body 10.01x3.9mm, Pitch 1.27mm, IPC High Density)
footprint 16NSOP_M (SOIC, 16-Leads, Body 10.01x3.9mm, Pitch 1.27mm, IPC Low Density)
pins: 1 PA3 (io), 2 PA2 (io), 3 PA1 (io), 4 PA0 (io), 5 PB0 (io), 6 VSS (power), 7 PB1 (io), 8 PB2 (io), 9 ~{RES} (in), 10 VDD (power), 11 OSC1 (in), 12 OSC2 (out), 13 PA7 (io), 14 PA6 (io), 15 PA5 (io), 16 PA4 (io)

## HT48CA1_28SOP
designator U?
IR Remote MCU, Remote Type MCU, 1.8V-3.6V, 400kHz-8MHz, 8Kx16 Program Memory, 224x8 Data Memory, 23 I/O, 1 x 8-bit Timer, 1 x 16-bit Timer, 28-pin SOP; I/O: 23; DatasheetVersion: rev1.4, May-2009; PackageVersion: 25/05/2010; PackageReference: 28SOP; PackageDescription: 28-Pin Small Outline Package, 300mil Wide, 1.27 mm Pitch; Series: Remote Type MCU; Operating Voltage: 1.8V-3.6V; Program Memory: 8Kx16; Data Memory: 224x8; Code_JEDEC: MS-013; ComponentLink1Description: Manufacturer URL; ComponentLink1URL: http://www.holtek.com/; ComponentLink2Description: Datasheet; ComponentLink2URL: http://www.holtek.com.cn/pdf/uc/sim48xa1v140.pdf; ComponentLink3Description: Package Specification; ComponentLink3URL: http://www.holtek.com/english/literature/package.pdf
footprint 28SOP_N (SOIC, 28-Leads, Body 17.9x7.1mm, Pitch 1.27mm, IPC Medium Density)
footprint 28SOP_L (SOIC, 28-Leads, Body 17.9x7.1mm, Pitch 1.27mm, IPC High Density)
footprint 28SOP_M (SOIC, 28-Leads, Body 17.9x7.1mm, Pitch 1.27mm, IPC Low Density)
pins: 1 PB5 (io), 2 PB4 (io), 3 PA3 (io), 4 PA2 (io), 5 PA1 (io), 6 PA0 (io), 7 PB3 (io), 8 PB2 (io), 9 PB1 (io), 10 PB0/PFD (io), 11 VSS (power), 12 PF0/~{INT} (io), 13 PC0/TMR0 (io), 14 PC1 (io), 15 PC2 (io), 16 PC3 (io), 17 PC4 (io), 18 PC5/TMR1 (io), 19 ~{RES} (in), 20 VDD (power), 21 OSC1 (in), 22 OSC2 (out), 23 PA7 (io), 24 PA6 (io), 25 PA5 (io), 26 PA4 (io), 27 PB7 (io), 28 PB6 (io)

## HT48CA1_28SSOP209
designator U?
IR Remote MCU, Remote Type MCU, 1.8V-3.6V, 400kHz-8MHz, 8Kx16 Program Memory, 224x8 Data Memory, 23 I/O, 1 x 8-bit Timer, 1 x 16-bit Timer, 28-pin SSOP(209mil); I/O: 23; DatasheetVersion: rev1.4, May-2009; PackageVersion: 25/05/2010; PackageReference: 28SSOP209; PackageDescription: 28-Pin Shrink Small Outline Package, 209mil Wide, 0.65 mm Pitch; Series: Remote Type MCU; Operating Voltage: 1.8V-3.6V; Program Memory: 8Kx16; Data Memory: 224x8; Code_JEDEC: MO-150; ComponentLink1Description: Manufacturer URL; ComponentLink1URL: http://www.holtek.com/; ComponentLink2Description: Datasheet; ComponentLink2URL: http://www.holtek.com.cn/pdf/uc/sim48xa1v140.pdf; ComponentLink3Description: Package Specification; ComponentLink3URL: http://www.holtek.com/english/literature/package.pdf
footprint 28SSOP209_N (SOP, 28-Leads, Body 10.2x5.3mm, Pitch 0.65mm, IPC Medium Density)
footprint 28SSOP209_L (SOP, 28-Leads, Body 10.2x5.3mm, Pitch 0.65mm, IPC High Density)
footprint 28SSOP209_M (SOP, 28-Leads, Body 10.2x5.3mm, Pitch 0.65mm, IPC Low Density)
pins: 1 PB5 (io), 2 PB4 (io), 3 PA3 (io), 4 PA2 (io), 5 PA1 (io), 6 PA0 (io), 7 PB3 (io), 8 PB2 (io), 9 PB1 (io), 10 PB0/PFD (io), 11 VSS (power), 12 PF0/~{INT} (io), 13 PC0/TMR0 (io), 14 PC1 (io), 15 PC2 (io), 16 PC3 (io), 17 PC4 (io), 18 PC5/TMR1 (io), 19 ~{RES} (in), 20 VDD (power), 21 OSC1 (in), 22 OSC2 (out), 23 PA7 (io), 24 PA6 (io), 25 PA5 (io), 26 PA4 (io), 27 PB7 (io), 28 PB6 (io)

## HT48CA3_28SOP
designator U?
IR Remote MCU, Remote Type MCU, 1.8V-3.6V, 400kHz-8MHz, 24Kx16 Program Memory, 224x8 Data Memory, 23 I/O, 1 x 8-bit Timer, 1 x 16-bit Timer, 28-pin SOP; I/O: 23; DatasheetVersion: rev1.5, Jun-2009; PackageVersion: 25/05/2010; PackageReference: 28SOP; PackageDescription: 28-Pin Small Outline Package, 300mil Wide, 1.27 mm Pitch; Series: Remote Type MCU; Operating Voltage: 1.8V-3.6V; Program Memory: 24Kx16; Data Memory: 224x8; Code_JEDEC: MS-013; ComponentLink1Description: Manufacturer URL; ComponentLink1URL: http://www.holtek.com/; ComponentLink2Description: Datasheet; ComponentLink2URL: http://www.holtek.com.cn/pdf/uc/sim48xa3v150.pdf; ComponentLink3Description: Package Specification; ComponentLink3URL: http://www.holtek.com/english/literature/package.pdf
footprint 28SOP_N (SOIC, 28-Leads, Body 17.9x7.1mm, Pitch 1.27mm, IPC Medium Density)
footprint 28SOP_L (SOIC, 28-Leads, Body 17.9x7.1mm, Pitch 1.27mm, IPC High Density)
footprint 28SOP_M (SOIC, 28-Leads, Body 17.9x7.1mm, Pitch 1.27mm, IPC Low Density)
pins: 1 PB5 (io), 2 PB4 (io), 3 PA3 (io), 4 PA2 (io), 5 PA1 (io), 6 PA0 (io), 7 PB3 (io), 8 PB2 (io), 9 PB1 (io), 10 PB0/PFD (io), 11 VSS (power), 12 PF0/~{INT} (io), 13 PC0/TMR0 (io), 14 PC1 (io), 15 PC2 (io), 16 PC3 (io), 17 PC4 (io), 18 PC5/TMR1 (io), 19 ~{RES} (in), 20 VDD (power), 21 OSC1 (in), 22 OSC2 (out), 23 PA7 (io), 24 PA6 (io), 25 PA5 (io), 26 PA4 (io), 27 PB7 (io), 28 PB6 (io)

## HT48CA3_28SSOP209
designator U?
IR Remote MCU, Remote Type MCU, 1.8V-3.6V, 400kHz-8MHz, 24Kx16 Program Memory, 224x8 Data Memory, 23 I/O, 1 x 8-bit Timer, 1 x 16-bit Timer, 28-pin SSOP(209mil); I/O: 23; DatasheetVersion: rev1.5, Jun-2009; PackageVersion: 25/05/2010; PackageReference: 28SSOP209; PackageDescription: 28-Pin Shrink Small Outline Package, 209mil Wide, 0.65 mm Pitch; Series: Remote Type MCU; Operating Voltage: 1.8V-3.6V; Program Memory: 24Kx16; Data Memory: 224x8; Code_JEDEC: MO-150; ComponentLink1Description: Manufacturer URL; ComponentLink1URL: http://www.holtek.com/; ComponentLink2Description: Datasheet; ComponentLink2URL: http://www.holtek.com.cn/pdf/uc/sim48xa3v150.pdf; ComponentLink3Description: Package Specification; ComponentLink3URL: http://www.holtek.com/english/literature/package.pdf
footprint 28SSOP209_N (SOP, 28-Leads, Body 10.2x5.3mm, Pitch 0.65mm, IPC Medium Density)
footprint 28SSOP209_L (SOP, 28-Leads, Body 10.2x5.3mm, Pitch 0.65mm, IPC High Density)
footprint 28SSOP209_M (SOP, 28-Leads, Body 10.2x5.3mm, Pitch 0.65mm, IPC Low Density)
pins: 1 PB5 (io), 2 PB4 (io), 3 PA3 (io), 4 PA2 (io), 5 PA1 (io), 6 PA0 (io), 7 PB3 (io), 8 PB2 (io), 9 PB1 (io), 10 PB0/PFD (io), 11 VSS (power), 12 PF0/~{INT} (io), 13 PC0/TMR0 (io), 14 PC1 (io), 15 PC2 (io), 16 PC3 (io), 17 PC4 (io), 18 PC5/TMR1 (io), 19 ~{RES} (in), 20 VDD (power), 21 OSC1 (in), 22 OSC2 (out), 23 PA7 (io), 24 PA6 (io), 25 PA5 (io), 26 PA4 (io), 27 PB7 (io), 28 PB6 (io)

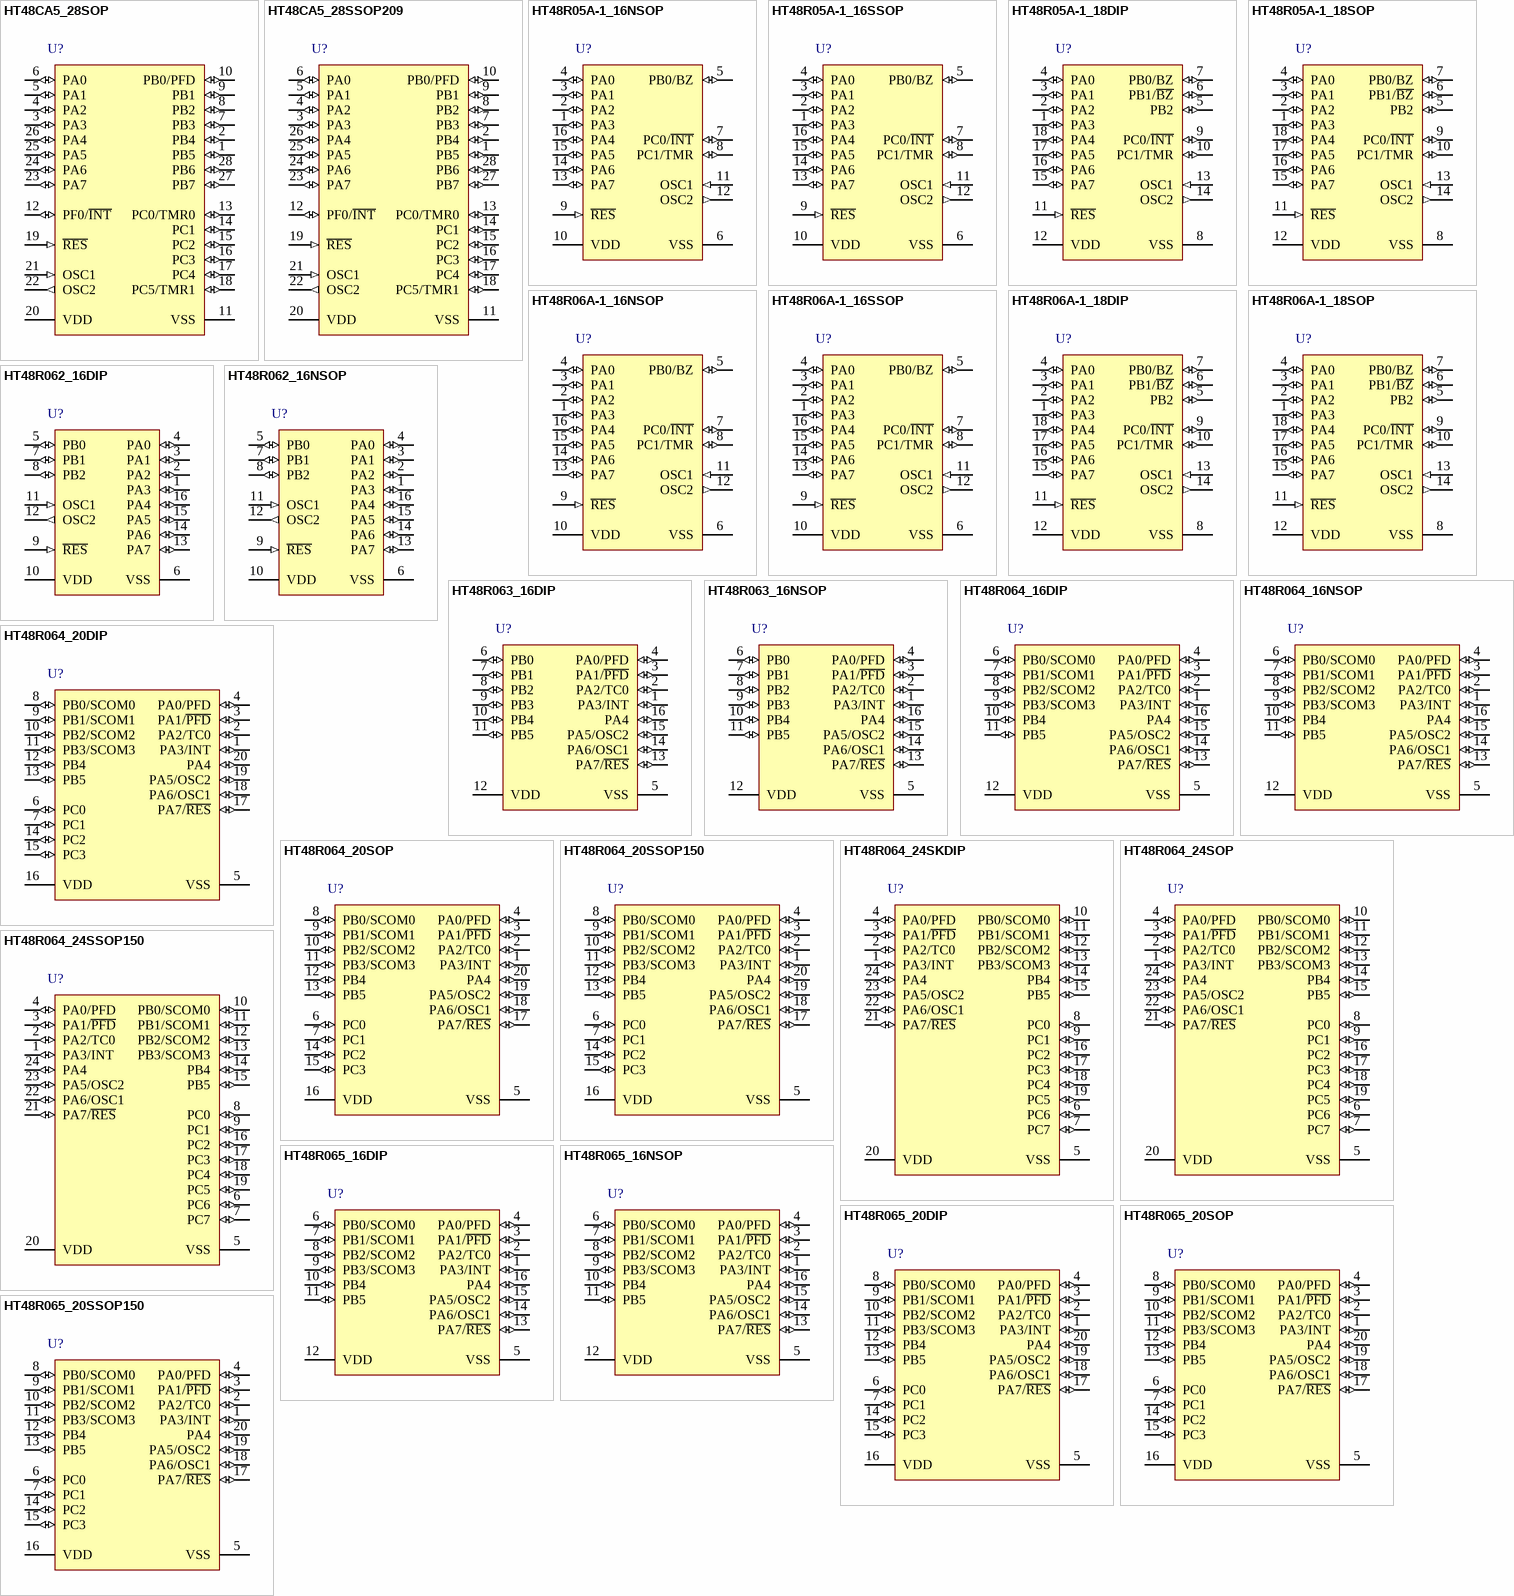
[diagram p8: symbols HT48CA5_28SOP to HT48R065_20SSOP150]

## HT48CA5_28SOP
designator U?
IR Remote MCU, Remote Type MCU, 1.8V-3.6V, 400kHz-8MHz, 40Kx16 Program Memory, 224x8 Data Memory, 23 I/O, 1 x 8-bit Timer, 1 x 16-bit Timer, 28-pin SOP; I/O: 23; DatasheetVersion: rev1.4, May-2009; PackageVersion: 25/05/2010; PackageReference: 28SOP; PackageDescription: 28-Pin Small Outline Package, 300mil Wide, 1.27 mm Pitch; Series: Remote Type MCU; Operating Voltage: 1.8V-3.6V; Program Memory: 40Kx16; Data Memory: 224x8; Code_JEDEC: MS-013; ComponentLink1Description: Manufacturer URL; ComponentLink1URL: http://www.holtek.com/; ComponentLink2Description: Datasheet; ComponentLink2URL: http://www.holtek.com.cn/pdf/uc/sim48xa5v140.pdf; ComponentLink3Description: Package Specification; ComponentLink3URL: http://www.holtek.com/english/literature/package.pdf
footprint 28SOP_N (SOIC, 28-Leads, Body 17.9x7.1mm, Pitch 1.27mm, IPC Medium Density)
footprint 28SOP_L (SOIC, 28-Leads, Body 17.9x7.1mm, Pitch 1.27mm, IPC High Density)
footprint 28SOP_M (SOIC, 28-Leads, Body 17.9x7.1mm, Pitch 1.27mm, IPC Low Density)
pins: 1 PB5 (io), 2 PB4 (io), 3 PA3 (io), 4 PA2 (io), 5 PA1 (io), 6 PA0 (io), 7 PB3 (io), 8 PB2 (io), 9 PB1 (io), 10 PB0/PFD (io), 11 VSS (power), 12 PF0/~{INT} (io), 13 PC0/TMR0 (io), 14 PC1 (io), 15 PC2 (io), 16 PC3 (io), 17 PC4 (io), 18 PC5/TMR1 (io), 19 ~{RES} (in), 20 VDD (power), 21 OSC1 (in), 22 OSC2 (out), 23 PA7 (io), 24 PA6 (io), 25 PA5 (io), 26 PA4 (io), 27 PB7 (io), 28 PB6 (io)

## HT48CA5_28SSOP209
designator U?
IR Remote MCU, Remote Type MCU, 1.8V-3.6V, 400kHz-8MHz, 40Kx16 Program Memory, 224x8 Data Memory, 23 I/O, 1 x 8-bit Timer, 1 x 16-bit Timer, 28-pin SSOP(209mil); I/O: 23; DatasheetVersion: rev1.4, May-2009; PackageVersion: 25/05/2010; PackageReference: 28SSOP209; PackageDescription: 28-Pin Shrink Small Outline Package, 209mil Wide, 0.65 mm Pitch; Series: Remote Type MCU; Operating Voltage: 1.8V-3.6V; Program Memory: 40Kx16; Data Memory: 224x8; Code_JEDEC: MO-150; ComponentLink1Description: Manufacturer URL; ComponentLink1URL: http://www.holtek.com/; ComponentLink2Description: Datasheet; ComponentLink2URL: http://www.holtek.com.cn/pdf/uc/sim48xa5v140.pdf; ComponentLink3Description: Package Specification; ComponentLink3URL: http://www.holtek.com/english/literature/package.pdf
footprint 28SSOP209_N (SOP, 28-Leads, Body 10.2x5.3mm, Pitch 0.65mm, IPC Medium Density)
footprint 28SSOP209_L (SOP, 28-Leads, Body 10.2x5.3mm, Pitch 0.65mm, IPC High Density)
footprint 28SSOP209_M (SOP, 28-Leads, Body 10.2x5.3mm, Pitch 0.65mm, IPC Low Density)
pins: 1 PB5 (io), 2 PB4 (io), 3 PA3 (io), 4 PA2 (io), 5 PA1 (io), 6 PA0 (io), 7 PB3 (io), 8 PB2 (io), 9 PB1 (io), 10 PB0/PFD (io), 11 VSS (power), 12 PF0/~{INT} (io), 13 PC0/TMR0 (io), 14 PC1 (io), 15 PC2 (io), 16 PC3 (io), 17 PC4 (io), 18 PC5/TMR1 (io), 19 ~{RES} (in), 20 VDD (power), 21 OSC1 (in), 22 OSC2 (out), 23 PA7 (io), 24 PA6 (io), 25 PA5 (io), 26 PA4 (io), 27 PB7 (io), 28 PB6 (io)

## HT48R05A-1_16NSOP
designator U?
General Purpose MCU, Cost-Effective I/O Type MCU, 2.2V-5.5V, 400kHz-8MHz, 0.5Kx14 Program Memory, 32x8 Data Memory, 13 I/O, 1 x 8-bit Timer, 16-pin NSOP; I/O: 13; DatasheetVersion: rev1.51, Dec-2008; PackageVersion: 25/05/2010; PackageReference: 16NSOP; PackageDescription: 16-Pin Narrow Small Outline Package, 150mil Wide, 1.27 mm Pitch; Series: Cost-Effective I/O Type MCU; Operating Voltage: 2.2V-5.5V; Program Memory: 0.5Kx14; Data Memory: 32x8; ComponentLink1Description: Manufacturer URL; ComponentLink1URL: http://www.holtek.com/; ComponentLink2Description: Datasheet; ComponentLink2URL: http://www.holtek.com.cn/pdf/uc/sim48x050608_1v151.pdf; ComponentLink3Description: Package Specification; ComponentLink3URL: http://www.holtek.com/english/literature/package.pdf
footprint 16NSOP_N (SOIC, 16-Leads, Body 10.01x3.9mm, Pitch 1.27mm, IPC Medium Density)
footprint 16NSOP_L (SOIC, 16-Leads, Body 10.01x3.9mm, Pitch 1.27mm, IPC High Density)
footprint 16NSOP_M (SOIC, 16-Leads, Body 10.01x3.9mm, Pitch 1.27mm, IPC Low Density)
pins: 1 PA3 (io), 2 PA2 (io), 3 PA1 (io), 4 PA0 (io), 5 PB0/BZ (io), 6 VSS (power), 7 PC0/~{INT} (io), 8 PC1/TMR (io), 9 ~{RES} (in), 10 VDD (power), 11 OSC1 (in), 12 OSC2 (out), 13 PA7 (io), 14 PA6 (io), 15 PA5 (io), 16 PA4 (io)

## HT48R05A-1_16SSOP
designator U?
General Purpose MCU, Cost-Effective I/O Type MCU, 2.2V-5.5V, 400kHz-8MHz, 0.5Kx14 Program Memory, 32x8 Data Memory, 13 I/O, 1 x 8-bit Timer, 16-pin SSOP; I/O: 13; DatasheetVersion: rev1.51, Dec-2008; PackageVersion: 25/05/2010; PackageReference: 16SSOP; PackageDescription: 16-Pin Shrink Small Outline Package, 150mil Width, 0.64 mm Pitch; Series: Cost-Effective I/O Type MCU; Operating Voltage: 2.2V-5.5V; Program Memory: 0.5Kx14; Data Memory: 32x8; ComponentLink1Description: Manufacturer URL; ComponentLink1URL: http://www.holtek.com/; ComponentLink2Description: Datasheet; ComponentLink2URL: http://www.holtek.com.cn/pdf/uc/sim48x050608_1v151.pdf; ComponentLink3Description: Package Specification; ComponentLink3URL: http://www.holtek.com/english/literature/package.pdf
footprint 16SSOP_N (SOP, 16-Leads, Body 4.9x3.9mm, Pitch 0.635mm, IPC Medium Density)
footprint 16SSOP_L (SOP, 16-Leads, Body 4.9x3.9mm, Pitch 0.635mm, IPC High Density)
footprint 16SSOP_M (SOP, 16-Leads, Body 4.9x3.9mm, Pitch 0.635mm, IPC Low Density)
pins: 1 PA3 (io), 2 PA2 (io), 3 PA1 (io), 4 PA0 (io), 5 PB0/BZ (io), 6 VSS (power), 7 PC0/~{INT} (io), 8 PC1/TMR (io), 9 ~{RES} (in), 10 VDD (power), 11 OSC1 (in), 12 OSC2 (out), 13 PA7 (io), 14 PA6 (io), 15 PA5 (io), 16 PA4 (io)

## HT48R05A-1_18DIP
designator U?
General Purpose MCU, Cost-Effective I/O Type MCU, 2.2V-5.5V, 400kHz-8MHz, 0.5Kx14 Program Memory, 32x8 Data Memory, 13 I/O, 1 x 8-bit Timer, 18-pin DIP; I/O: 13; DatasheetVersion: rev1.51, Dec-2008; PackageVersion: 25/05/2010; PackageReference: 18DIP; PackageDescription: 18-Pin, Dual In-line Package, 300mil Width, Pitch 2.54 mm, Full Lead; Series: Cost-Effective I/O Type MCU; Operating Voltage: 2.2V-5.5V; Program Memory: 0.5Kx14; Data Memory: 32x8; Code_JEDEC: MS-001D; ComponentLink1Description: Manufacturer URL; ComponentLink1URL: http://www.holtek.com/; ComponentLink2Description: Datasheet; ComponentLink2URL: http://www.holtek.com.cn/pdf/uc/sim48x050608_1v151.pdf; ComponentLink3Description: Package Specification; ComponentLink3URL: http://www.holtek.com/english/literature/package.pdf
footprint 18DIP (DIP, 18-Leads, Row Spacing 7.62mm, Pitch 2.54mm, Body 22.9x6.6mm)
pins: 1 PA3 (io), 2 PA2 (io), 3 PA1 (io), 4 PA0 (io), 5 PB2 (io), 6 PB1/~{BZ} (io), 7 PB0/BZ (io), 8 VSS (power), 9 PC0/~{INT} (io), 10 PC1/TMR (io), 11 ~{RES} (in), 12 VDD (power), 13 OSC1 (in), 14 OSC2 (out), 15 PA7 (io), 16 PA6 (io), 17 PA5 (io), 18 PA4 (io)

## HT48R05A-1_18SOP
designator U?
General Purpose MCU, Cost-Effective I/O Type MCU, 2.2V-5.5V, 400kHz-8MHz, 0.5Kx14 Program Memory, 32x8 Data Memory, 13 I/O, 1 x 8-bit Timer, 18-pin SOP; I/O: 13; DatasheetVersion: rev1.51, Dec-2008; PackageVersion: 25/05/2010; PackageReference: 18SOP; PackageDescription: 18-Pin Small Outline Package, 300mil Wide, 1.27 mm Pitch; Series: Cost-Effective I/O Type MCU; Operating Voltage: 2.2V-5.5V; Program Memory: 0.5Kx14; Data Memory: 32x8; Code_JEDEC: MS-013; ComponentLink1Description: Manufacturer URL; ComponentLink1URL: http://www.holtek.com/; ComponentLink2Description: Datasheet; ComponentLink2URL: http://www.holtek.com.cn/pdf/uc/sim48x050608_1v151.pdf; ComponentLink3Description: Package Specification; ComponentLink3URL: http://www.holtek.com/english/literature/package.pdf
footprint 18SOP_N (SOIC, 18-Leads, Body 11.6x7.1mm, Pitch 1.27mm, IPC Medium Density)
footprint 18SOP_L (SOIC, 18-Leads, Body 11.6x7.1mm, Pitch 1.27mm, IPC High Density)
footprint 18SOP_M (SOIC, 18-Leads, Body 11.6x7.1mm, Pitch 1.27mm, IPC Low Density)
pins: 1 PA3 (io), 2 PA2 (io), 3 PA1 (io), 4 PA0 (io), 5 PB2 (io), 6 PB1/~{BZ} (io), 7 PB0/BZ (io), 8 VSS (power), 9 PC0/~{INT} (io), 10 PC1/TMR (io), 11 ~{RES} (in), 12 VDD (power), 13 OSC1 (in), 14 OSC2 (out), 15 PA7 (io), 16 PA6 (io), 17 PA5 (io), 18 PA4 (io)

## HT48R06A-1_16NSOP
designator U?
General Purpose MCU, Cost-Effective I/O Type MCU, 2.2V-5.5V, 400kHz-8MHz, 1Kx14 Program Memory, 64x8 Data Memory, 13 I/O, 1 x 8-bit Timer, 16-pin NSOP; I/O: 13; DatasheetVersion: rev1.51, Dec-2008; PackageVersion: 25/05/2010; PackageReference: 16NSOP; PackageDescription: 16-Pin Narrow Small Outline Package, 150mil Wide, 1.27 mm Pitch; Series: Cost-Effective I/O Type MCU; Operating Voltage: 2.2V-5.5V; Program Memory: 1Kx14; Data Memory: 64x8; ComponentLink1Description: Manufacturer URL; ComponentLink1URL: http://www.holtek.com/; ComponentLink2Description: Datasheet; ComponentLink2URL: http://www.holtek.com.cn/pdf/uc/sim48x050608_1v151.pdf; ComponentLink3Description: Package Specification; ComponentLink3URL: http://www.holtek.com/english/literature/package.pdf
footprint 16NSOP_N (SOIC, 16-Leads, Body 10.01x3.9mm, Pitch 1.27mm, IPC Medium Density)
footprint 16NSOP_L (SOIC, 16-Leads, Body 10.01x3.9mm, Pitch 1.27mm, IPC High Density)
footprint 16NSOP_M (SOIC, 16-Leads, Body 10.01x3.9mm, Pitch 1.27mm, IPC Low Density)
pins: 1 PA3 (io), 2 PA2 (io), 3 PA1 (io), 4 PA0 (io), 5 PB0/BZ (io), 6 VSS (power), 7 PC0/~{INT} (io), 8 PC1/TMR (io), 9 ~{RES} (in), 10 VDD (power), 11 OSC1 (in), 12 OSC2 (out), 13 PA7 (io), 14 PA6 (io), 15 PA5 (io), 16 PA4 (io)

## HT48R06A-1_16SSOP
designator U?
General Purpose MCU, Cost-Effective I/O Type MCU, 2.2V-5.5V, 400kHz-8MHz, 1Kx14 Program Memory, 64x8 Data Memory, 13 I/O, 1 x 8-bit Timer, 16-pin SSOP; I/O: 13; DatasheetVersion: rev1.51, Dec-2008; PackageVersion: 25/05/2010; PackageReference: 16SSOP; PackageDescription: 16-Pin Shrink Small Outline Package, 150mil Width, 0.64 mm Pitch; Series: Cost-Effective I/O Type MCU; Operating Voltage: 2.2V-5.5V; Program Memory: 1Kx14; Data Memory: 64x8; ComponentLink1Description: Manufacturer URL; ComponentLink1URL: http://www.holtek.com/; ComponentLink2Description: Datasheet; ComponentLink2URL: http://www.holtek.com.cn/pdf/uc/sim48x050608_1v151.pdf; ComponentLink3Description: Package Specification; ComponentLink3URL: http://www.holtek.com/english/literature/package.pdf
footprint 16SSOP_N (SOP, 16-Leads, Body 4.9x3.9mm, Pitch 0.635mm, IPC Medium Density)
footprint 16SSOP_L (SOP, 16-Leads, Body 4.9x3.9mm, Pitch 0.635mm, IPC High Density)
footprint 16SSOP_M (SOP, 16-Leads, Body 4.9x3.9mm, Pitch 0.635mm, IPC Low Density)
pins: 1 PA3 (io), 2 PA2 (io), 3 PA1 (io), 4 PA0 (io), 5 PB0/BZ (io), 6 VSS (power), 7 PC0/~{INT} (io), 8 PC1/TMR (io), 9 ~{RES} (in), 10 VDD (power), 11 OSC1 (in), 12 OSC2 (out), 13 PA7 (io), 14 PA6 (io), 15 PA5 (io), 16 PA4 (io)

## HT48R06A-1_18DIP
designator U?
General Purpose MCU, Cost-Effective I/O Type MCU, 2.2V-5.5V, 400kHz-8MHz, 1Kx14 Program Memory, 64x8 Data Memory, 13 I/O, 1 x 8-bit Timer, 18-pin DIP; I/O: 13; DatasheetVersion: rev1.51, Dec-2008; PackageVersion: 25/05/2010; PackageReference: 18DIP; PackageDescription: 18-Pin, Dual In-line Package, 300mil Width, Pitch 2.54 mm, Full Lead; Series: Cost-Effective I/O Type MCU; Operating Voltage: 2.2V-5.5V; Program Memory: 1Kx14; Data Memory: 64x8; Code_JEDEC: MS-001D; ComponentLink1Description: Manufacturer URL; ComponentLink1URL: http://www.holtek.com/; ComponentLink2Description: Datasheet; ComponentLink2URL: http://www.holtek.com.cn/pdf/uc/sim48x050608_1v151.pdf; ComponentLink3Description: Package Specification; ComponentLink3URL: http://www.holtek.com/english/literature/package.pdf
footprint 18DIP (DIP, 18-Leads, Row Spacing 7.62mm, Pitch 2.54mm, Body 22.9x6.6mm)
pins: 1 PA3 (io), 2 PA2 (io), 3 PA1 (io), 4 PA0 (io), 5 PB2 (io), 6 PB1/~{BZ} (io), 7 PB0/BZ (io), 8 VSS (power), 9 PC0/~{INT} (io), 10 PC1/TMR (io), 11 ~{RES} (in), 12 VDD (power), 13 OSC1 (in), 14 OSC2 (out), 15 PA7 (io), 16 PA6 (io), 17 PA5 (io), 18 PA4 (io)

## HT48R06A-1_18SOP
designator U?
General Purpose MCU, Cost-Effective I/O Type MCU, 2.2V-5.5V, 400kHz-8MHz, 1Kx14 Program Memory, 64x8 Data Memory, 13 I/O, 1 x 8-bit Timer, 18-pin SOP; I/O: 13; DatasheetVersion: rev1.51, Dec-2008; PackageVersion: 25/05/2010; PackageReference: 18SOP; PackageDescription: 18-Pin Small Outline Package, 300mil Wide, 1.27 mm Pitch; Series: Cost-Effective I/O Type MCU; Operating Voltage: 2.2V-5.5V; Program Memory: 1Kx14; Data Memory: 64x8; Code_JEDEC: MS-013; ComponentLink1Description: Manufacturer URL; ComponentLink1URL: http://www.holtek.com/; ComponentLink2Description: Datasheet; ComponentLink2URL: http://www.holtek.com.cn/pdf/uc/sim48x050608_1v151.pdf; ComponentLink3Description: Package Specification; ComponentLink3URL: http://www.holtek.com/english/literature/package.pdf
footprint 18SOP_N (SOIC, 18-Leads, Body 11.6x7.1mm, Pitch 1.27mm, IPC Medium Density)
footprint 18SOP_L (SOIC, 18-Leads, Body 11.6x7.1mm, Pitch 1.27mm, IPC High Density)
footprint 18SOP_M (SOIC, 18-Leads, Body 11.6x7.1mm, Pitch 1.27mm, IPC Low Density)
pins: 1 PA3 (io), 2 PA2 (io), 3 PA1 (io), 4 PA0 (io), 5 PB2 (io), 6 PB1/~{BZ} (io), 7 PB0/BZ (io), 8 VSS (power), 9 PC0/~{INT} (io), 10 PC1/TMR (io), 11 ~{RES} (in), 12 VDD (power), 13 OSC1 (in), 14 OSC2 (out), 15 PA7 (io), 16 PA6 (io), 17 PA5 (io), 18 PA4 (io)

## HT48R062_16DIP
designator U?
General Purpose MCU, Cost-Effective I/O Type MCU, 2.2V-5.5V, 400kHz-8MHz, 1Kx14 Program Memory, 32x8 Data Memory, 11 I/O, 16-pin DIP; I/O: 11; DatasheetVersion: rev1.21, Dec-2008; PackageVersion: 25/05/2010; PackageReference: 16DIP; PackageDescription: 16-Pin, Dual In-line Package, 300mil Width, Pitch 2.54 mm, Full Lead; Series: Cost-Effective I/O Type MCU; Operating Voltage: 2.2V-5.5V; Program Memory: 1Kx14; Data Memory: 32x8; Code_JEDEC: MS-001D; ComponentLink1Description: Manufacturer URL; ComponentLink1URL: http://www.holtek.com/; ComponentLink2Description: Datasheet; ComponentLink2URL: http://www.holtek.com.cn/pdf/uc/sim48x062_v121.pdf; ComponentLink3Description: Package Specification; ComponentLink3URL: http://www.holtek.com/english/literature/package.pdf
footprint 16DIP (DIP, 16-Leads, Row Spacing 7.62mm, Pitch 2.54mm, Body 21.1x6.6mm)
pins: 1 PA3 (io), 2 PA2 (io), 3 PA1 (io), 4 PA0 (io), 5 PB0 (io), 6 VSS (power), 7 PB1 (io), 8 PB2 (io), 9 ~{RES} (in), 10 VDD (power), 11 OSC1 (in), 12 OSC2 (out), 13 PA7 (io), 14 PA6 (io), 15 PA5 (io), 16 PA4 (io)

## HT48R062_16NSOP
designator U?
General Purpose MCU, Cost-Effective I/O Type MCU, 2.2V-5.5V, 400kHz-8MHz, 1Kx14 Program Memory, 32x8 Data Memory, 11 I/O, 16-pin NSOP; I/O: 11; DatasheetVersion: rev1.21, Dec-2008; PackageVersion: 25/05/2010; PackageReference: 16NSOP; PackageDescription: 16-Pin Narrow Small Outline Package, 150mil Wide, 1.27 mm Pitch; Series: Cost-Effective I/O Type MCU; Operating Voltage: 2.2V-5.5V; Program Memory: 1Kx14; Data Memory: 32x8; ComponentLink1Description: Manufacturer URL; ComponentLink1URL: http://www.holtek.com/; ComponentLink2Description: Datasheet; ComponentLink2URL: http://www.holtek.com.cn/pdf/uc/sim48x062_v121.pdf; ComponentLink3Description: Package Specification; ComponentLink3URL: http://www.holtek.com/english/literature/package.pdf
footprint 16NSOP_N (SOIC, 16-Leads, Body 10.01x3.9mm, Pitch 1.27mm, IPC Medium Density)
footprint 16NSOP_L (SOIC, 16-Leads, Body 10.01x3.9mm, Pitch 1.27mm, IPC High Density)
footprint 16NSOP_M (SOIC, 16-Leads, Body 10.01x3.9mm, Pitch 1.27mm, IPC Low Density)
pins: 1 PA3 (io), 2 PA2 (io), 3 PA1 (io), 4 PA0 (io), 5 PB0 (io), 6 VSS (power), 7 PB1 (io), 8 PB2 (io), 9 ~{RES} (in), 10 VDD (power), 11 OSC1 (in), 12 OSC2 (out), 13 PA7 (io), 14 PA6 (io), 15 PA5 (io), 16 PA4 (io)

## HT48R063_16DIP
designator U?
General Purpose MCU, Enhanced I/O Type MCU, 2.2V-5.5V, 32kHz-12MHz, 1Kx14 Program Memory, 64x8 Data Memory, 14 I/O, 1 x 8-bit Timer, 16-pin DIP; I/O: 14; DatasheetVersion: rev1.3, Jun-2010; PackageVersion: 25/05/2010; PackageReference: 16DIP; PackageDescription: 16-Pin, Dual In-line Package, 300mil Width, Pitch 2.54 mm, Full Lead; Series: Enhanced I/O Type MCU; Operating Voltage: 2.2V-5.5V; Program Memory: 1Kx14; Data Memory: 64x8; Code_JEDEC: MS-001D; ComponentLink1Description: Manufacturer URL; ComponentLink1URL: http://www.holtek.com/; ComponentLink2Description: Datasheet; ComponentLink2URL: http://www.holtek.com.cn/pdf/uc/sim48R06xv130.pdf; ComponentLink3Description: Package Specification; ComponentLink3URL: http://www.holtek.com/english/literature/package.pdf
footprint 16DIP (DIP, 16-Leads, Row Spacing 7.62mm, Pitch 2.54mm, Body 21.1x6.6mm)
pins: 1 PA3/INT (io), 2 PA2/TC0 (io), 3 PA1/~{PFD} (io), 4 PA0/PFD (io), 5 VSS (power), 6 PB0 (io), 7 PB1 (io), 8 PB2 (io), 9 PB3 (io), 10 PB4 (io), 11 PB5 (io), 12 VDD (power), 13 PA7/~{RES} (io), 14 PA6/OSC1 (io), 15 PA5/OSC2 (io), 16 PA4 (io)

## HT48R063_16NSOP
designator U?
General Purpose MCU, Enhanced I/O Type MCU, 2.2V-5.5V, 32kHz-12MHz, 1Kx14 Program Memory, 64x8 Data Memory, 14 I/O, 1 x 8-bit Timer, 16-pin NSOP; I/O: 14; DatasheetVersion: rev1.3, Jun-2010; PackageVersion: 25/05/2010; PackageReference: 16NSOP; PackageDescription: 16-Pin Narrow Small Outline Package, 150mil Wide, 1.27 mm Pitch; Series: Enhanced I/O Type MCU; Operating Voltage: 2.2V-5.5V; Program Memory: 1Kx14; Data Memory: 64x8; ComponentLink1Description: Manufacturer URL; ComponentLink1URL: http://www.holtek.com/; ComponentLink2Description: Datasheet; ComponentLink2URL: http://www.holtek.com.cn/pdf/uc/sim48R06xv130.pdf; ComponentLink3Description: Package Specification; ComponentLink3URL: http://www.holtek.com/english/literature/package.pdf
footprint 16NSOP_N (SOIC, 16-Leads, Body 10.01x3.9mm, Pitch 1.27mm, IPC Medium Density)
footprint 16NSOP_L (SOIC, 16-Leads, Body 10.01x3.9mm, Pitch 1.27mm, IPC High Density)
footprint 16NSOP_M (SOIC, 16-Leads, Body 10.01x3.9mm, Pitch 1.27mm, IPC Low Density)
pins: 1 PA3/INT (io), 2 PA2/TC0 (io), 3 PA1/~{PFD} (io), 4 PA0/PFD (io), 5 VSS (power), 6 PB0 (io), 7 PB1 (io), 8 PB2 (io), 9 PB3 (io), 10 PB4 (io), 11 PB5 (io), 12 VDD (power), 13 PA7/~{RES} (io), 14 PA6/OSC1 (io), 15 PA5/OSC2 (io), 16 PA4 (io)